# Altium integrated library Pedal_FootSW.IntLib: 3 symbols
Pins are listed as number, name and electrical type; pins without a type are passive.

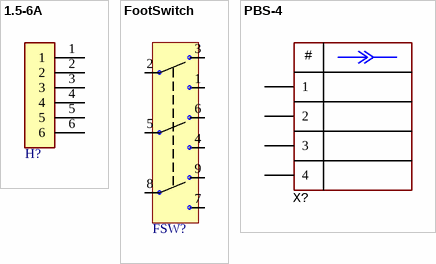
[diagram p0: symbols 1.5-6A to PBS-4]

## 1.5-6A
designator H?  (value not drawn)
Pin Header p=1.5mm, 6 pins
footprint 1.5-6A (Pin Header p=1.5mm, 6 pins)
pins: 1, 2, 3, 4, 5, 6

## FootSwitch
designator FSW?  (value not drawn)
footprint FOOTSW
pins: 1, 2, 3, 4, 5, 6, 7, 8, 9

## PBS-4
designator X?
Manufacturer: Connfly; ValueManufacturerPartNumber: Connector, 4pin, 2.54mm, 500VAC, 3A; PartNumber: PBS-4; TypeConnector: Connector; VoltageMax: 500VAC; Pitch: 2.54mm; CurrentMax: 3A; Multichannel: 4pin; CommentText: "Разъем"; HelpURL: https://www.chipdip.ru/product/pbs-4
footprint CON: PBS-4 (PBS-5)
pins: 1, 2, 3 (power), 4 (power)
text: #